# Altium schematic symbol library opto-transmittter-hp.SCHLIB: 7 symbols
Pins are listed as number, name and electrical type; pins without a type are passive.

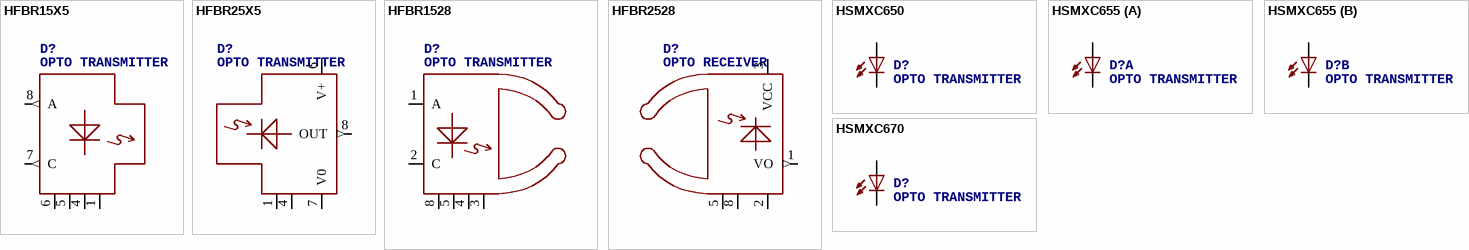
[diagram p0: symbols HFBR15X5 to HSMXC670]

## HFBR15X5
designator D?, comment OPTO TRANSMITTER
MPN: HFBR-1515BZ; MF: AGILENT TECHNOLOGIES; OC_FARNELL: 1247636; OC_NEWARK: 74K5147
footprint HFBR-ST
pins: 1, 4, 5 GND, 6 GND@1, 7 C (out), 8 A (out)

## HFBR25X5
designator D?, comment OPTO TRANSMITTER
MPN: HFBR-2515BZ; MF: AGILENT TECHNOLOGIES; OC_FARNELL: 1247662; OC_NEWARK: 74K5170
footprint HFBR-ST
pins: 1, 4, 6 V+, 7 V0, 8 OUT (out)

## HFBR1528
designator D?, comment OPTO TRANSMITTER
MF: AGILENT TECHNOLOGIES; MPN: HFBR-1528; OC_FARNELL: 1247638; OC_NEWARK: 06F6056
footprint HFBR25XX
pins: 1 A, 2 C, 3 1, 4, 5 GND, 8 GND@1

## HFBR2528
designator D?, comment OPTO RECEIVER
MF: AGILENT TECHNOLOGIES; MPN: HFBR-2528; OC_FARNELL: 1247664; OC_NEWARK: 06F6096
footprint HFBR25XX
pins: 1 VO (out), 2 GND, 3 VCC, 5 1, 8 4

## HSMXC650
designator D?, comment OPTO TRANSMITTER
OC_FARNELL: unknown; OC_NEWARK: unknown
footprint HSMXC650
pins: A, K C

## HSMXC655
designator D?, comment OPTO TRANSMITTER
OC_FARNELL: unknown; OC_NEWARK: unknown
footprint HSMFC655
part A pins: A-RED A, K-RED C
part B pins: A-GRN A, K-GRN C

## HSMXC670
designator D?, comment OPTO TRANSMITTER
OC_FARNELL: unknown; OC_NEWARK: unknown
footprint HSMXC670
pins: A, K C